# EAGLE library part MOLEX_8734006XX (library Triggy)
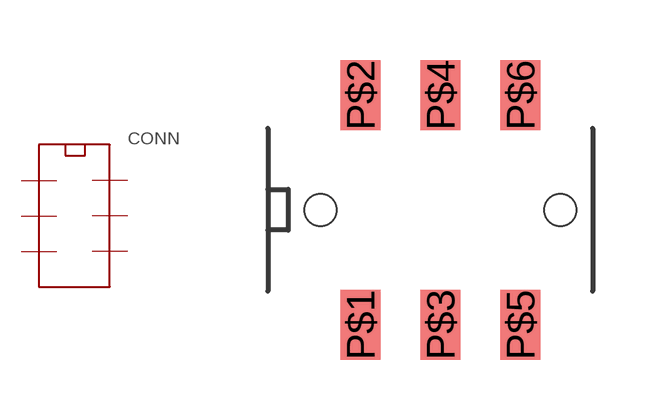
[diagram p2: symbol with the pads of MOLEX_8734006XX; footprint MOLEX_8734006XX]

Designator prefix CONN

## MOLEX_8734006XX  [MOLEX_8734006XX]
P$1  P$1
P$2  P$2
P$3  P$3
P$4  P$4
P$5  P$5
P$6  P$6

## Footprint MOLEX_8734006XX (pad centres in mm)
smd 1 x 1.75: P$1 -2,-2.875; P$2 -2,2.875; P$3 0,-2.875; P$4 0,2.875; P$5 2,-2.875; P$6 2,2.875
hole 0.8 at -3,0
hole 0.8 at 3,0